# EAGLE library part AL2-14MR-D (library e-sps)
SPS AL2 14MR D DC-Eingang, Relais-Ausgang MITSUBISHI Alpha_Installationsanweisung.pdf
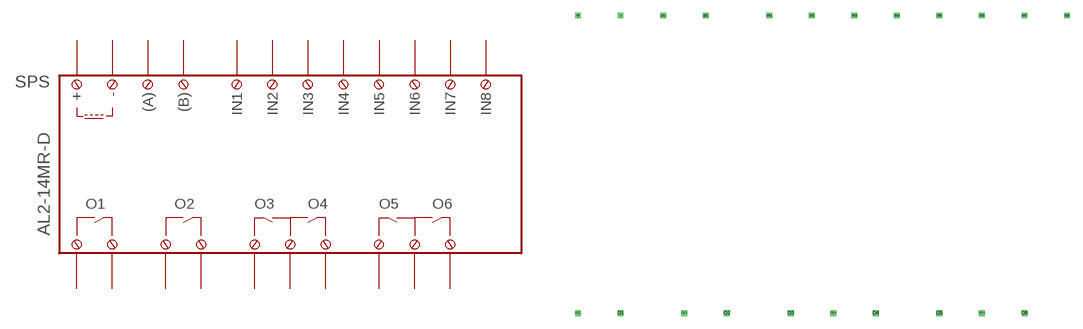
[diagram p16: symbol with the pads of AL2-14MR-D; footprint AL2-14MR-D]

Designator prefix SPS

## AL2-14MR-D  [AL2-14MR-D]
(A)  (A)  pas
(B)  (B)  pas
+  +  pas
-  -  pas
IN1  IN1  pas
IN2  IN2  pas
IN3  IN3  pas
IN4  IN4  pas
IN5  IN5  pas
IN6  IN6  pas
IN7  IN7  pas
IN8  IN8  pas
O1  O1  pas
O1.1  O1.1  pas
O2  O2  pas
O2.1  O2.1  pas
O3  O3  pas
O3.4  O3.4  pas
O4  O4  pas
O5  O5  pas
O5.6  O5.6  pas
O6  O6  pas

## Footprint AL2-14MR-D (pad centres in mm)
AL2 14MR D
drill 0.2 pad 0.6 square: (A) -20.32,17.78; (B) -15.24,17.78; + -30.48,17.78; - -25.4,17.78; IN1 -7.62,17.78; IN2 -2.54,17.78; IN3 2.54,17.78; IN4 7.62,17.78; IN5 12.7,17.78; IN6 17.78,17.78; IN7 22.86,17.78; IN8 27.94,17.78; O1 -25.4,-17.78; O1.1 -30.48,-17.78; O2 -12.7,-17.78; O2.1 -17.78,-17.78; O3 -5.08,-17.78; O3.4 0,-17.78; O4 5.08,-17.78; O5 12.7,-17.78; O5.6 17.78,-17.78; O6 22.86,-17.78